# Altium integrated library Altium_WE_eiSos_WL-SBTW.intlib: 3 symbols
Pins are listed as number, name and electrical type; pins without a type are passive.

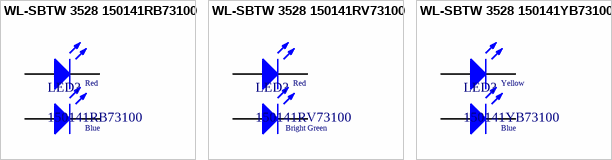
[diagram p0: symbols WL-SBTW 3528 150141RB73100 to WL-SBTW 3528 150141YB73100]

## WL-SBTW 3528 150141RB73100
designator LED?, comment 150141RB73100
SMD Bi-Color Top LED, WL-SBTW, Red & Blue; Manufacturer: Würth Elektronik eiSos GmbH; PartNo: 150141RB73100; ComponentLink1Description: Manufacturer; ComponentLink1URL: http://www.we-online.de; Created by: Christin Otto; Created Date: June 2013; ComponentLink2Description: Datasheet; ComponentLink2URL: http://katalog.we-online.com/led/datasheet/150141RB73100.pdf; Color: Red & Blue
footprint 3528 (SOJ, 4-Leads, Body 2.8x3.5mm (max), Pitch 1.42mm, IPC Medium Density)
pins: 1 A, 2 A, 3 C, 4 C
1 alternate drawing of the same symbol
text: Red; Blue

## WL-SBTW 3528 150141RV73100
designator LED?, comment 150141RV73100
SMD Bi-Color Top LED, WL-SBTW, Red & Bright Green; Manufacturer: Würth Elektronik eiSos GmbH; PartNo: 150141RV73100; ComponentLink1Description: Manufacturer; ComponentLink1URL: http://www.we-online.de; Created by: Christin Otto; Created Date: June 2013; ComponentLink2Description: Datasheet; ComponentLink2URL: http://katalog.we-online.com/led/datasheet/150141RV73100.pdf; Color: Red & Bright Green
footprint 3528 (SOJ, 4-Leads, Body 2.8x3.5mm (max), Pitch 1.42mm, IPC Medium Density)
pins: 1 A, 2 A, 3 C, 4 C
1 alternate drawing of the same symbol
text: Red; Bright Green

## WL-SBTW 3528 150141YB73100
designator LED?, comment 150141YB73100
SMD Bi-Color Top LED, WL-SBTW, Yellow & Blue; Manufacturer: Würth Elektronik eiSos GmbH; PartNo: 150141YB73100; ComponentLink1Description: Manufacturer; ComponentLink1URL: http://www.we-online.de; Created by: Christin Otto; Created Date: June 2013; ComponentLink2Description: Datasheet; ComponentLink2URL: http://katalog.we-online.com/led/datasheet/150141YB73100.pdf; Color: Yellow & Blue
footprint 3528 (SOJ, 4-Leads, Body 2.8x3.5mm (max), Pitch 1.42mm, IPC Medium Density)
pins: 1 A, 2 A, 3 C, 4 C
1 alternate drawing of the same symbol
text: Yellow; Blue